# Altium schematic symbol library UWB1-85EC.SchLib: 2 symbols
Pins are listed as number, name and electrical type; pins without a type are passive.

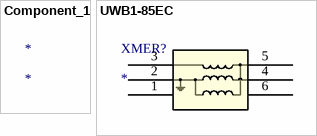
[diagram p0: symbols Component_1 to UWB1-85EC]

## Component_1
designator *

## UWB1-85EC
designator XMER?
No Description Available; Mfr_Name: Coilcraft; RefDes: RefDes; Type: Type
footprint UWB1UWB2_COC
pins: 1, 2, 3, 4, 5, 6